# Altium footprint library CX3SMAW.PcbLib: 1 footprints
Each footprint in its own frame and in the unit in brackets; x right, y up, seen from the top. Pads: shape width x height; smd on the part's side, far side on the other; paste and mask are expansions set on the pad; w line width, h text height; cw(c..) or ccw(c..) is an arc to the next point about the centre after c.
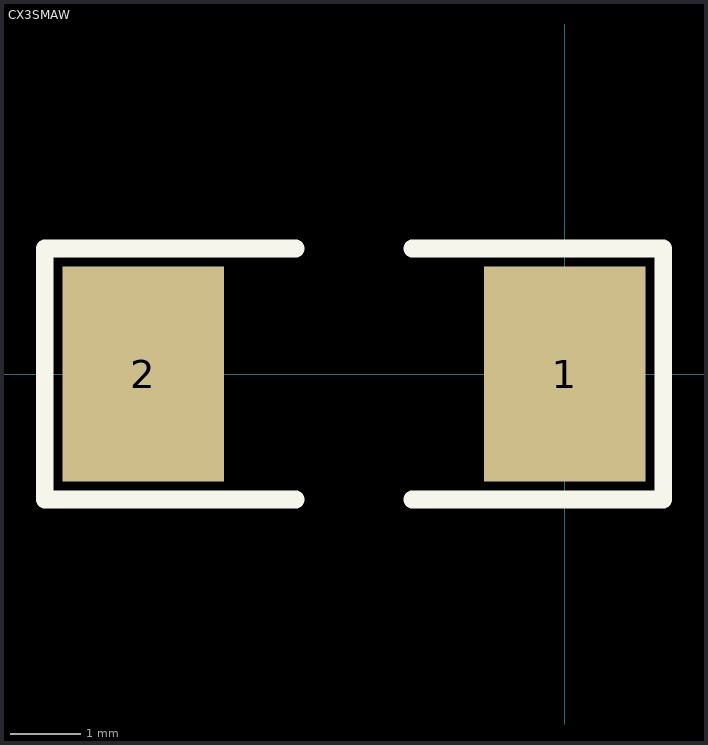
[diagram p0: the footprint, top view; thin cyan lines are the x and y axes]

## CX3SMAW [mil]
height 70
pads (2):
  rect 90x120 smd: 1(0,0) 2(-235,0)
TopOverlay:
  lines w10: -150,-70 -290,-70 -290,70 -150,70 ; -85,-70 55,-70 55,70 -85,70
Mechanical4:
  text ".068" at 0,0 h1
3D body: height 70.6, standoff 0.6, extent -251.27,-52.88 18.73,51.12